# Altium footprint library 643341001.PcbLib: 1 footprints
Each footprint in its own frame and in the unit in brackets; x right, y up, seen from the top. Pads: shape width x height; smd on the part's side, far side on the other; paste and mask are expansions set on the pad; w line width, h text height; cw(c..) or ccw(c..) is an arc to the next point about the centre after c.
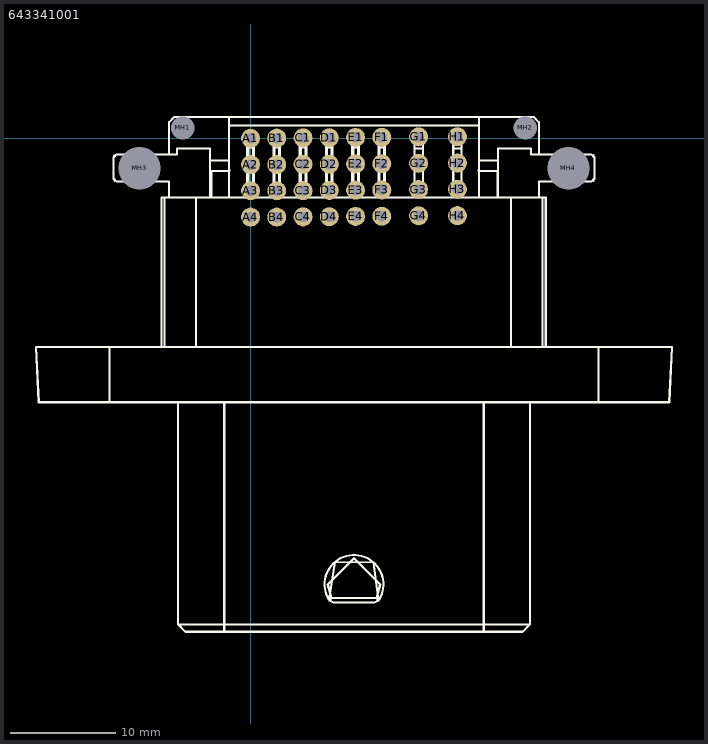
[diagram p0: the footprint, top view; thin cyan lines are the x and y axes]

## 643341001 [mm]
pads (36):
  round 1.8 hole 1: A1(0,0) A2(0,-2.5) A3(0,-5) A4(0,-7.5) B1(2.5,0.02) B2(2.5,-2.5) B3(2.5,-5) B4(2.5,-7.5) C1(5,0.04) C2(5,-2.48) C3(5,-4.98) C4(5,-7.48) D1(7.5,0.06) D2(7.5,-2.46) D3(7.5,-4.96) D4(7.5,-7.46) E1(10,0.08) E2(10,-2.44) E3(10,-4.94) E4(10,-7.44) F1(12.5,0.1) F2(12.5,-2.42) F3(12.5,-4.92) F4(12.5,-7.42) G1(16,0.14) G2(16,-2.38) G3(16,-4.88) G4(16,-7.38) H1(19.7,0.16) H2(19.7,-2.36) H3(19.7,-4.86) H4(19.7,-7.36)
  round 1.524 hole 2.2: MH1(-6.45,1) MH2(26.15,1)
  round 1.524 hole 4: MH3(-10.55,-2.85) MH4(30.25,-2.85)
Top Overlay:
  drawing of 265 lines, arcs and shapes, not listed
3D body "32PIN-SSV.STEP": height 6.14, standoff -34.04, extent -20.483,-47.093 40.092,2.007